# Altium schematic symbol library Portier_1730.SCHLIB: 28 symbols
Pins are listed as number, name and electrical type; pins without a type are passive.

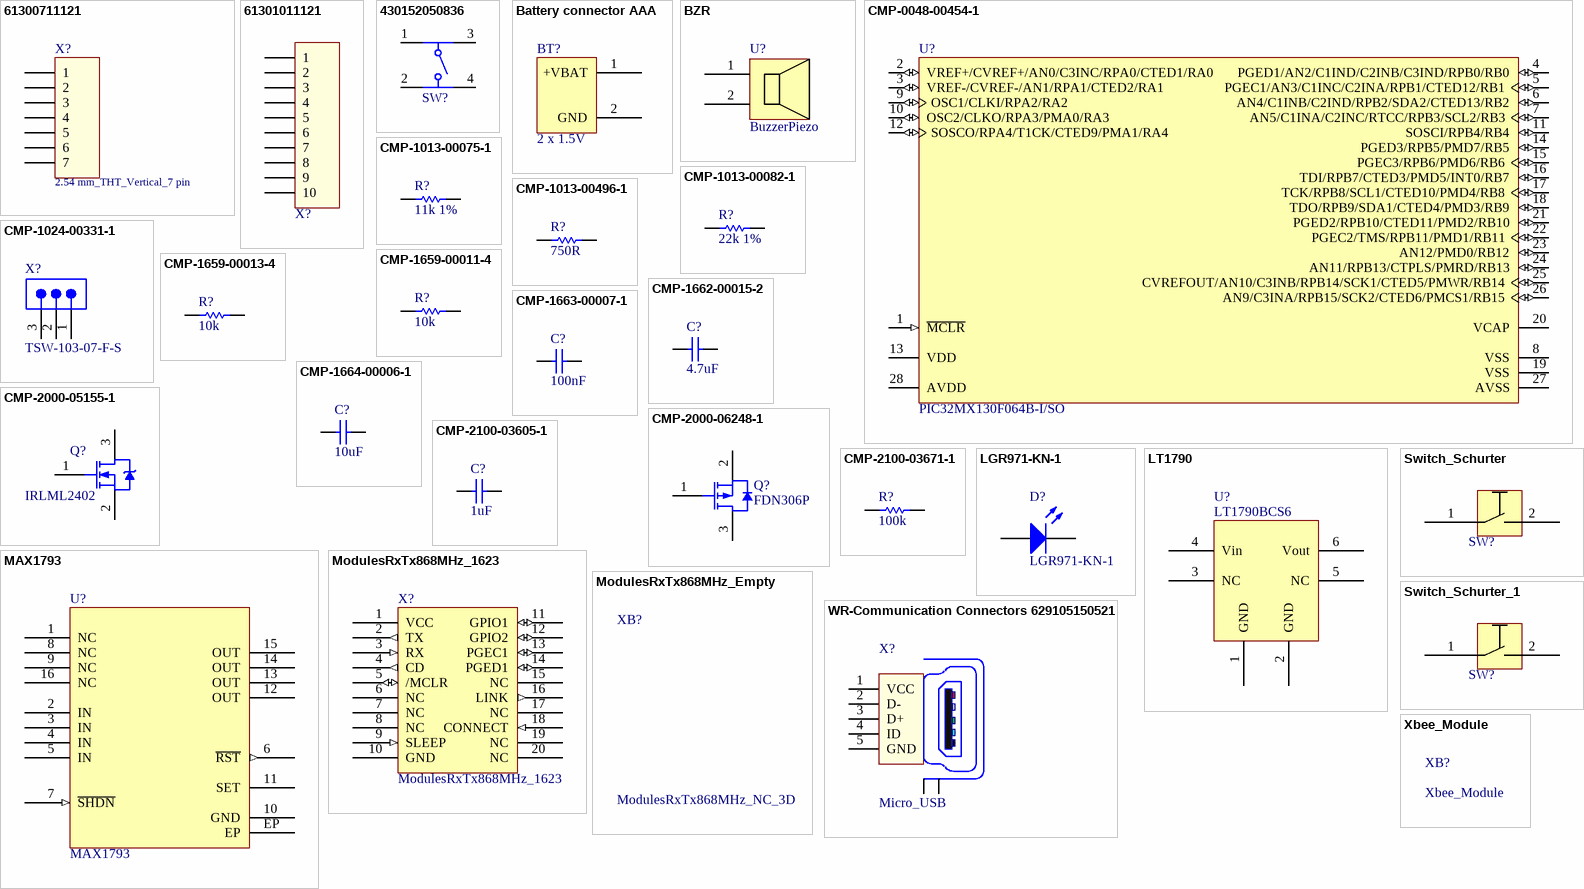
[diagram p0: symbols 61300711121 to Xbee_Module]

## 61300711121
designator X?, comment 2.54 mm_THT_Vertical_7 pin
Pin Header WR-PHD, pitch 2.54 mm, THT, Vertical, single row, 7 pin; Part Number: 61300711121; Rated Current: 3 A; Pin Number: 7; Pitch: 2.54 mm; Working Voltage: 250 VAC; Contact Resistance: 20 mOhm; Insulation Resistance: >1000 MOhm; ComponentLink1Description: Manufacturer; ComponentLink1URL: http://www.we-online.de; ComponentLink2Description: Datasheet; ComponentLink2URL: http://katalog.we-online.de/em/datasheet/6130xx11121.pdf; Published Date: Jan. 2018; Publisher: Wurth Elektronik; Operating Temperature: -40 to 105 degC; Mounting Technology: THT; Row Number: Single; Orientation: Vertical; Supplier: Stock ES
footprint 61300711121
pins: 1, 2, 3, 4, 5, 6, 7

## 61301011121
designator X?  (value not drawn)
WR-PHD 2.54 mm THT Pin Header, 10p; Pin Number: 10; Rated Current: 3 A; Working Voltage: 250 VAC; Withstanding Voltage: 500 VAC; Pitch: 2.54 mm; ComponentLink1Description: Manufacturer; ComponentLink1URL: http://www.we-online.de; ComponentLink2Description: Datasheet; ComponentLink2URL: http://katalog.we-online.de/em/datasheet/6130xx11121.pdf; Part Number: 61301011121; Published Date: Aug 2017; Publisher: Wurth Elektronik
footprint 61301011121
pins: 1, 2, 3, 4, 5, 6, 7, 8, 9, 10

## 430152050836
designator SW?  (value not drawn)
WS-TASV 6x6mm Tact Switch, SMD version; Operation Force: 360g; ComponentLink1Description: Manufacturer; ComponentLink1URL: http://www.we-online.de; ComponentLink2Description: Datasheet; ComponentLink2URL: http://katalog.we-online.de/em/datasheet/4301x2xxx8x6.pdf; Part Number: 430152050836; Published Date: June 2017; Publisher: Wurth Elektronik; Life Cycle: 200000 cycles; Size: 6x6x5 mm; Supplier: Stock ES
footprint 4301x20508x6_6x6x5 (6x6mm Tact Switch, SMD version)
pins: 1, 2, 3, 4

## Battery connector AAA
designator BT?, comment 2 x 1.5V
Battery Support 2x1.5V type AAA; Value: 2x 1V5; Supplier: ? A retrouver? Stock magasin ETML ?
footprint BatterySupport (Battery Support 2 x 1.5V type AAA)
pins: 1 +VBAT (power), 2 GND (power)

## BZR
designator U?, comment BuzzerPiezo
Buzzer 12mm piezo; Manufacturer: TDK Corporation; PartNumber: PS1240P02BT; Supplier: Digi-key; Supplier PN: 445-2525-1-ND; Supplier min. qty: 1; Supplier unit price: 0.67
footprint Buzzer (Buzzer d_12mm)
pins: 1, 2

## CMP-0048-00454-1
designator U?, comment PIC32MX130F064B-I/SO
32-bit Microcontroller with Audio and Graphics Interface, USB and Advanced Analog, 40 MHz, 21 I/O, PMP, -40 to 85 degC, 28-pin SOIC (SO28), Tube; Manufacturer: Microchip; ComponentLink4URL: http://www.microchip.com/PIC32MX130F064B; DatasheetVersion: Rev. E; ComponentLink1URL: http://www.microchip.com; ComponentLink2URL: http://ww1.microchip.com/downloads/en/DeviceDoc/61168E.pdf; PackageDescription: 28-Lead Plastic Small Outline, 17.9 x 7.5 mm Body, 1.27 mm Pitch; PackageVersion: C04-052C; Mounting Technology: Surface Mount; ComponentLink2Description: Datasheet; ComponentLink3URL: http://www.microchip.com/stellent/groups/techpub_sg/documents/packagingspec/en012702.pdf; PartNumber: PIC32MX130F064B-I/SO; PackageReference: SOIC-SO28; ComponentLink1Description: Manufacturer URL; ComponentLink3Description: Package Specification; ComponentLink4Description: Product URL; Supplier: Digi-key; Supplier PN: PIC32MX130F064B-I/SO-ND; Manufacturer 1: Microchip; Manufacturer Part Number 1: PIC32MX130F064B-I/SO
footprint MCHP-SOIC-SO28_L (SOIC, 28-Leads, Body 17.9x7.5mm, Pitch 1.27mm, IPC High Density)
footprint MCHP-SOIC-SO28_N (SOIC, 28-Leads, Body 17.9x7.5mm, Pitch 1.27mm, IPC Medium Density)
footprint MCHP-SOIC-SO28_M (SOIC, 28-Leads, Body 17.9x7.5mm, Pitch 1.27mm, IPC Low Density)
pins: 1 ~{MCLR} (in) "Master Clear (Reset) input. This pin is an active-low Reset to the device", 2 VREF+/CVREF+/AN0/C3INC/RPA0/CTED1/RA0 (io), 3 VREF-/CVREF-/AN1/RPA1/CTED2/RA1 (io), 4 PGED1/AN2/C1IND/C2INB/C3IND/RPB0/RB0 (io), 5 PGEC1/AN3/C1INC/C2INA/RPB1/CTED12/RB1 (io), 6 AN4/C1INB/C2IND/RPB2/SDA2/CTED13/RB2 (io), 7 AN5/C1INA/C2INC/RTCC/RPB3/SCL2/RB3 (io), 8 VSS (power) "Ground reference for logic and I/O pins. This pin must be connected at all times.", 9 OSC1/CLKI/RPA2/RA2 (io), 10 OSC2/CLKO/RPA3/PMA0/RA3 (io), 11 SOSCI/RPB4/RB4 (io), 12 SOSCO/RPA4/T1CK/CTED9/PMA1/RA4 (io), 13 VDD (power) "Positive supply for peripheral logic and I/O pins", 14 PGED3/RPB5/PMD7/RB5 (io), 15 PGEC3/RPB6/PMD6/RB6 (io), 16 TDI/RPB7/CTED3/PMD5/INT0/RB7 (io), 17 TCK/RPB8/SCL1/CTED10/PMD4/RB8 (io), 18 TDO/RPB9/SDA1/CTED4/PMD3/RB9 (io), 19 VSS (power) "Ground reference for logic and I/O pins. This pin must be connected at all times.", 20 VCAP "CPU logic filter capacitor connection", 21 PGED2/RPB10/CTED11/PMD2/RB10 (io), 22 PGEC2/TMS/RPB11/PMD1/RB11 (io), 23 AN12/PMD0/RB12 (io), 24 AN11/RPB13/CTPLS/PMRD/RB13 (io), 25 CVREFOUT/AN10/C3INB/RPB14/SCK1/CTED5/PMWR/RB14 (io), 26 AN9/C3INA/RPB15/SCK2/CTED6/PMCS1/RB15 (io), 27 AVSS (power) "Ground reference for analog modules", 28 AVDD (power) "Positive supply for analog modules. This pin must be connected at all times"

## CMP-1013-00075-1
designator R?, comment 11k 1%
11k 0.125W 0805 (2012 Metric)  SMD; Manufacturer 1: Bourns; Manufacturer Part Number 1: CR0805-JW-112ELF; Value: 1100.00 Ohm; PackageCase: 0805; Supplier: Stock ES; Manufacturer 2: Vishay Dale; Manufacturer Part Number 2: CRCW08051K10JNTB; Manufacturer 3: Vishay Dale; Manufacturer Part Number 3: CRCW08051K10JNEB; Manufacturer 4: Panasonic; Manufacturer Part Number 4: ERJ-6GEYJ112V; Manufacturer 5: Vishay Dale; Manufacturer Part Number 5: CRCW08051K10JNTA; Manufacturer 6: Yageo; Manufacturer Part Number 6: RC0805JR-071K1L; Manufacturer 7: Rohm; Manufacturer Part Number 7: MCR10EZPJ112; Manufacturer 8: Vishay Dale; Manufacturer Part Number 8: CRCW08051K10JNEA
footprint RESC0805(2012)_N (Chip Resistor, Body 2.0x1.3mm, IPC Medium Density)
footprint RESC0805(2012)_L (Chip Resistor, Body 2.0x1.3mm, IPC High Density)
footprint RESC0805(2012)_M (Chip Resistor, Body 2.0x1.3mm, IPC Low Density)
pins: 1, 2
1 alternate drawing of the same symbol

## CMP-1013-00082-1
designator R?, comment 22k 1%
22k 0.125W  0805 (2012 Metric)  SMD; Manufacturer 1: Vishay Dale; Manufacturer Part Number 1: CRCW08052K20JNEA; Manufacturer 10: Rohm; Manufacturer Part Number 10: MCR10EZPJ222; Value: 2200.00 Ohm; PackageCase: 0805; Supplier: Stock ES; Manufacturer 2: Vishay Dale; Manufacturer Part Number 2: CRCW08052K20JNTA; Manufacturer 3: Vishay Dale; Manufacturer Part Number 3: CRCW08052K20JNTC; Manufacturer 4: Vishay Dale; Manufacturer Part Number 4: CRCW08052K20JNTB; Manufacturer 5: Vishay Dale; Manufacturer Part Number 5: CRCW08052K20JNEB; Manufacturer 6: Vishay Dale; Manufacturer Part Number 6: CRCW08052K20JNEC; Manufacturer 7: Bourns; Manufacturer Part Number 7: CR0805-JW-222ELF; Manufacturer 8: Panasonic; Manufacturer Part Number 8: ERJ-6GEYJ222V; Manufacturer 9: Yageo; Manufacturer Part Number 9: RC0805JR-072K2L
footprint RESC0805(2012)_L (Chip Resistor, Body 2.0x1.3mm, IPC High Density)
footprint RESC0805(2012)_N (Chip Resistor, Body 2.0x1.3mm, IPC Medium Density)
footprint RESC0805(2012)_M (Chip Resistor, Body 2.0x1.3mm, IPC Low Density)
pins: 1, 2
1 alternate drawing of the same symbol

## CMP-1013-00496-1
designator R?, comment 750R
750R 0.125W 1% 0805 (2012 Metric)  SMD; Manufacturer 1: Vishay Dale; Manufacturer Part Number 1: CRCW0805750RFKEB; Value: 750.00 Ohm; PackageCase: 0805; Supplier: Stock ES; Manufacturer 2: Vishay Dale; Manufacturer Part Number 2: CRCW0805750RFKTB; Manufacturer 3: Vishay Dale; Manufacturer Part Number 3: CRCW0805750RFKTA; Manufacturer 4: Vishay; Manufacturer Part Number 4: CRCW0805750RFKEA; Manufacturer 5: Bourns; Manufacturer Part Number 5: CR0805-FX-7500ELF; Manufacturer 6: Yageo; Manufacturer Part Number 6: RC0805FR-07750RL; Manufacturer 7: Panasonic; Manufacturer Part Number 7: ERJ-6ENF7500V; Manufacturer 8: Rohm; Manufacturer Part Number 8: MCR10EZPF7500; Manufacturer 9: Vishay; Manufacturer Part Number 9: CRCW0805750RFKEC
footprint RESC0805(2012)_N (Chip Resistor, Body 2.0x1.3mm, IPC Medium Density)
footprint RESC0805(2012)_L (Chip Resistor, Body 2.0x1.3mm, IPC High Density)
footprint RESC0805(2012)_M (Chip Resistor, Body 2.0x1.3mm, IPC Low Density)
pins: 1, 2
1 alternate drawing of the same symbol

## CMP-1024-00331-1
designator X?, comment TSW-103-07-F-S
0.025" SQ Post Header, Through-hole, Vertical, -55 to 125 degC, 2.54 mm Pitch, 3-Pin, Male, RoHS; Manufacturer 1: Samtec; Value: 1x3; PackageCase: TSW-103-07-X-S; Supplier: Stock ES; Manufacturer Part Number 1: TSW-103-07-F-S
footprint SMTC-TSW-103-07-X-S (.025 SQ Post Terminal Strip Assembly, 1x3 Pins, Vertical, 2.54mm Pitch, Male)
pins: 1, 2, 3

## CMP-1659-00011-4
designator R?, comment 10k
Chip Resistor, 10 KOhm, +/- 1%, 0.125 W, -55 to 155 degC, 0805 (2012 Metric), RoHS, Tape and Reel; Manufacturer 1: Yageo; Manufacturer Part Number 1: RC0805FR-0747KL; Voltage Rating: 150 V; PackageCase: 0805; Value: 10k; Supplier: Stock ES
footprint RESC2013X60X35NL10T20 (Chip Resistor, 2-Leads, Body 2.1x1.35mm, IPC Medium Density)
footprint RESC2013X60X35ML10T20 (Chip Resistor, 2-Leads, Body 2.1x1.35mm, IPC Low Density)
footprint RESC2013X60X35LL10T20 (Chip Resistor, 2-Leads, Body 2.1x1.35mm, IPC High Density)
pins: 1, 2

## CMP-1659-00013-4
designator R?, comment 10k
Chip Resistor, 10 KOhm, +/- 1%, 0.125 W, -55 to 155 degC, 0805 (2012 Metric), RoHS, Tape and Reel; Manufacturer 1: Yageo; Manufacturer Part Number 1: RC0805FR-0710KL; Voltage Rating: 150 V; PackageCase: 0805; Value: 10k; Supplier: Stock ES
footprint RESC2013X60X35NL10T20 (Chip Resistor, 2-Leads, Body 2.1x1.35mm, IPC Medium Density)
footprint RESC2013X60X35LL10T20 (Chip Resistor, 2-Leads, Body 2.1x1.35mm, IPC High Density)
footprint RESC2013X60X35ML10T20 (Chip Resistor, 2-Leads, Body 2.1x1.35mm, IPC Low Density)
pins: 1, 2

## CMP-1662-00015-2
designator C?, comment 4.7uF
Chip Capacitor, 4.7 uF, +/- 10%, 16 V, -55 to 85 degC, 0805 (2012 Metric), RoHS, Tape and Reel; PartNumber: GRM21BR61C475KA88L; Manufacturer 1: Murata; Voltage Rating: 16 V; PackageCase: 0805; Value: 4.7 uF; Supplier: Stock ES; Manufacturer Part Number 1: GRM21BR61C475KA88L
footprint CAPC2013X135X45LL10T25 (Chip Capacitor, 2-Leads, Body 2.10x1.35mm, IPC High Density)
footprint CAPC2013X135X45ML10T25 (Chip Capacitor, 2-Leads, Body 2.10x1.35mm, IPC Low Density)
footprint CAPC2013X135X45NL10T25 (Chip Capacitor, 2-Leads, Body 2.10x1.35mm, IPC Medium Density)
pins: 1, 2

## CMP-1663-00007-1
designator C?, comment 100nF
Chip Capacitor, 100 nF, +/- 10%, 16 V, -55 to 85 degC, 0805 (2012 Metric), RoHS, Tape and Reel; Manufacturer 1: TDK; Manufacturer Part Number 1: C2012X5R1C106K085AC; Voltage Rating: 16 V; PackageCase: 0805; Value: 100 nF; Supplier: Stock ES
footprint CAPC2013X100X20NL20 (Chip Capacitor, 2-Leads, Body 2.2x1.45mm, IPC Medium Density)
footprint CAPC2013X100X20LL20 (Chip Capacitor, 2-Leads, Body 2.2x1.45mm, IPC High Density)
footprint CAPC2013X100X20ML20 (Chip Capacitor, 2-Leads, Body 2.2x1.45mm, IPC Low Density)
pins: 1, 2

## CMP-1664-00006-1
designator C?, comment 10uF
CAP, Ceramic, 10 uF, +/- 10%, 16 V, -55 to 125 degC, 1206 (3216 Metric), RoHS, Tape and Reel; Manufacturer 1: KEMET; Manufacturer Part Number 1: C1206C106K4RACTU; Voltage Rating: 50 V; PackageCase: 0603; Value: 10 uF; Supplier: Stock ES
footprint CAPC3216X180X50ML20T25 (Chip Capacitor, 2-Leads, Body 3.40x1.80mm, IPC Low Density)
footprint CAPC3216X180X50LL20T25 (Chip Capacitor, 2-Leads, Body 3.40x1.80mm, IPC High Density)
footprint CAPC3216X180X50NL20T25 (Chip Capacitor, 2-Leads, Body 3.40x1.80mm, IPC Medium Density)
pins: 1, 2

## CMP-2000-05155-1
designator Q?, comment IRLML2402
HEXFET(R) Power MOSFET, N-Channel, 20 V, 1.2 A, 3-Pin SOT-23, RoHS, Tape and Reel; Manufacturer: Infineon Technologies; PartNumber: IRLML2402TRBF; Manufacturer 1: International Rectifier; Manufacturer Part Number 1: IRLML2402TRPBF; PackageCase: SOT-23; Supplier: Digi-key,Stock ES; Supplier PN: IRLML2402PBFCT-ND; Supplier min. qty: 1; Supplier unit price: 0.34
footprint INTR-IRLML2402TRPBF-3_V (SOT23, 3-Leads, Body 3.05x1.4mm, Pitch 0.95mm)
pins: 1 G, 2 S, 3 D

## CMP-2000-06248-1
designator Q?, comment FDN306P
P-Channel Specified Power Trench (R) MOSFET, 1.8 V, -55 to 150 degC, 3-Pin SOT, RoHS, Tape and Reel; Manufacturer: ON Semiconductor; Manufacturer 1: ON Semiconductor / Fairchild; PackageCase: SSOT-3; PartNumber: FDN306P; Supplier: Digi-key; Supplier PN: FDN306PCT-ND; Manufacturer Part Number 1: FDN306P
footprint FAIR-SSOT3L-3_V (SOT23, 3-Leads, Body 2.92x1.4mm, Pitch 0.95mm)
pins: 1 GATE, 2 SOURCE, 3 DRAIN

## CMP-2100-03605-1
designator C?, comment 1uF
Chip Capacitor, 1 uF, 25 V, 10%, -55 to 125 degC, 0805 (2012 Metric), RoHS, Tape and Reel; Manufacturer 1: Yageo; Manufacturer Part Number 1: CC0805KKX7R8BB105; Voltage Rating: 25V; PackageCase: 0805; Value: 1uF; Supplier: Stock ES
footprint CAPC2013X145X50ML20T25 (Chip Capacitor, 2-Leads, Body 2.00x1.25mm, IPC Low Density)
footprint CAPC2013X145X50NL20T25 (Chip Capacitor, 2-Leads, Body 2.00x1.25mm, IPC Medium Density)
footprint CAPC2013X145X50LL20T25 (Chip Capacitor, 2-Leads, Body 2.00x1.25mm, IPC High Density)
pins: 1, 2

## CMP-2100-03671-1
designator R?, comment 100k
Chip Resistor, 100 KOhm, +/- 1%, 125 mW, -55 to 155 degC, 0805 (2012 Metric), RoHS, Tape and Reel; Manufacturer 1: Yageo; Manufacturer Part Number 1: RC0805FR-071KL; Voltage Rating: 150V; PackageCase: 0805; Value: 100k; Supplier: Stock ES
footprint RESC2013X60X35ML10T20 (Chip Resistor, 2-Leads, Body 2.1x1.35mm, IPC Low Density)
footprint RESC2013X60X35NL10T20 (Chip Resistor, 2-Leads, Body 2.1x1.35mm, IPC Medium Density)
footprint RESC2013X60X35LL10T20 (Chip Resistor, 2-Leads, Body 2.00x1.25mm, IPC High Density)
pins: 1, 2

## LGR971-KN-1
designator D?
SMD mono-color Chip LED, 0805, Green; Manufacturer: OSRAM; PackageReference: 0805_A; Color: Green; PartNumber: LGR971-KN-1; ComponentLink1Description: Manufacturer URL; ComponentLink2Description: Datasheet; Supplier: Stock ES
footprint LED_0805 (Footprint not found)
pins: 1 A, 2 K

## LT1790
designator U?, comment LT1790BCS6
IC VREF SERIES 2.048V SOT23-6; Manufacturer: Linear Technology; PartNumber: LT1790BCS6-2.048#TRMPBF; Supplier: Digi-key; Supplier PN: LT1790BCS6-2.048#TRMPBFCT-ND; PackageCase: SOT-23
footprint SOT-23 (LT1790  SOT-23)
pins: 1 GND, 2 GND, 3 NC, 4 Vin, 5 NC, 6 Vout

## MAX1793
designator U?
IC REG LINEAR POS ADJ 1A 16TSSOP; Manufacturer: Maxim Integrated; Supplier: Stock ES
footprint TSOP65P640X110_HS-17N (TSOP, 16-Leads, Body 5.00x4.40mm, Pitch 0.65mm, Thermal Pad 3.10x3.10mm, IPC Medium Density)
pins: 1 NC, 2 IN, 3 IN, 4 IN, 5 IN, 6 ~{RST} (out), 7 ~{SHDN} (in), 8 NC, 9 NC, 10 GND, 11 SET, 12 OUT, 13 OUT, 14 OUT, 15 OUT, 16 NC, EP

## ModulesRxTx868MHz_1623
designator X?
2x Header 2x10 2mm / compatible xBee; PackageCase: XBee; Value: 2x10; Supplier: Digi-key; Supplier PN: 2x 3M156413-10-ND; Supplier min. qty: 1; Supplier unit price: 2x 0.74
footprint ModulesRxTx868MHz_1623 (Header)
pins: 1 VCC (power), 2 TX (out), 3 RX (in), 4 CD (out), 5 /MCLR (io), 6 NC, 7 NC, 8 NC, 9 SLEEP (in), 10 GND (power), 11 GPIO1 (io), 12 GPIO2 (io), 13 PGEC1 (io), 14 PGED1 (io), 15 NC, 16 LINK (out), 17 NC, 18 CONNECT (in), 19 NC, 20 NC

## ModulesRxTx868MHz_Empty
designator XB?, comment ModulesRxTx868MHz_NC_3D
2x Header 2x10 2mm / compatible xBee - sans connexion, avec footprint; PackageCase: XBee; Value: 2x10; Supplier: Digi-key; Supplier PN: 2x 3M156413-10-ND; Supplier min. qty: 1; Supplier unit price: 2x 0.74
footprint ModulesRxTx868MHz_1623 (Header)

## Switch_Schurter
designator SW?, comment Poussoir  (value not drawn)
Switch 12.7x12.7x17.5; Manufacturer: Schurter
footprint Switch_Schurter (switch 12.7x12.7)
pins: 1, 2

## Switch_Schurter_1
designator SW?, comment SW  (value not drawn)
Switch 12.7x12.7x17.5; Manufacturer: Schurter
footprint Switch_Schurter (switch 12.7x12.7)
pins: 1, 2

## WR-Communication Connectors 629105150521
designator X?, comment Micro_USB
WR-COM_USB_Micro Type B_Horizontal_SMT; Manufacturer: Würth Elektronik eiSos GmbH; PartNumber: 629105150521; Voltage Rating: 5V; Supplier: Digi-key; Supplier PN: 732-5960-1-ND; Supplier min. qty: 1; Supplier unit price: 2.03
footprint Micro_USB (WR-COM_USB_Micro Type B_Horizontal_SMT Micro Type B Horizontal SMT - 3A current at Pin1 & Pin 5 - with Pegs and THT shielding Pins  - T&R Packaging)
pins: 1 VCC, 2 D-, 3 D+, 4 ID, 5 GND, Z1 Shield, Z2 Shield

## Xbee_Module
designator XB?
Module Xbee 3D pour BOM et représentation 3D
footprint Xbee_3D (3D d'un module Xbee)